# Altium schematic symbol library CRCW06030000Z0EA.SchLib: 1 symbol
Pins are listed as number, name and electrical type; pins without a type are passive.

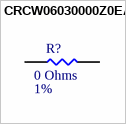
[diagram p0: symbol CRCW06030000Z0EA]

## CRCW06030000Z0EA
designator R?  Tolerance: 1%  Resistance: 0 Ohms  (hidden comment: CRCW06030000Z0EA)
Thick Film Resistors - SMD 1/10watt ZEROohm Jumper; MFR: Vishay; Qualifications: AEC-Q200; PN: CRCW06030000Z0EA; ComponentLink1Description: Datasheet; ComponentLink1URL: https://www.mouser.ca/datasheet/2/427/dcrcwe3-1762152.pdf; Footprint: RES0603; Package: 0603; Supplier 1: Allied Electronics; Supplier Part Number 1: 70201148
footprint RES0603 (Generic 0603)
pins: 1, 2